# EAGLE library part PCB_CONNECTOR (library HS100R)
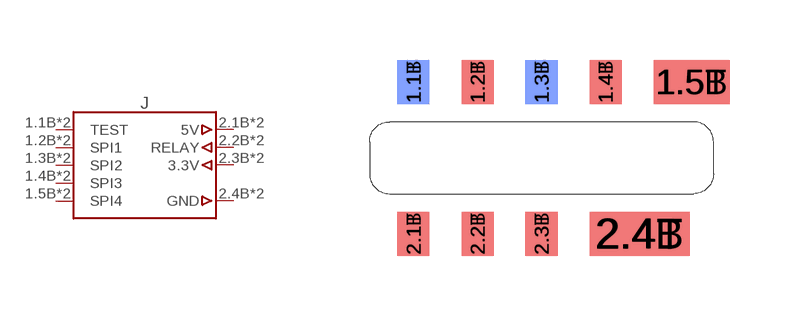
[diagram p0: symbol with the pads of PCB_CONNECTOR; footprint PCB_CONNECTOR]

Designator prefix J

## PCB_CONNECTOR  [PCB_CONNECTOR]
1.1B  TEST  pas
1.1T  TEST  pas
1.2B  SPI1  pas
1.2T  SPI1  pas
1.3B  SPI2  pas
1.3T  SPI2  pas
1.4B  SPI3  pas
1.4T  SPI3  pas
1.5B  SPI4  pas
1.5T  SPI4  pas
2.1B  5V  pas
2.1T  5V  pas
2.2B  RELAY  in
2.2T  RELAY  in
2.3B  3.3V  pas
2.3T  3.3V  pas
2.4B  GND  pas
2.4T  GND  pas

## Footprint PCB_CONNECTOR (pad centres in mm)
smd 0.8 x 1.1 bottom: 1.1B -3.2,1.9; 1.2B -1.6,1.9; 1.3B 0,1.9; 1.4B 1.6,1.9; 2.1B -3.2,-1.9; 2.2B -1.6,-1.9; 2.3B 0,-1.9
smd 0.8 x 1.1: 1.1T -3.2,1.9; 1.2T -1.6,1.9; 1.3T 0,1.9; 1.4T 1.6,1.9; 2.1T -3.2,-1.9; 2.2T -1.6,-1.9; 2.3T 0,-1.9
smd 1.9 x 1.1 bottom: 1.5B 3.75,1.9
smd 1.9 x 1.1: 1.5T 3.75,1.9
smd 2.5 x 1.1 bottom: 2.4B 2.45,-1.9
smd 2.5 x 1.1: 2.4T 2.45,-1.9